# Altium schematic symbol library SCH - BATTERY MANAGEMENT - CN5711 8SOP.SchLib: 1 symbol
Pins are listed as number, name and electrical type; pins without a type are passive.

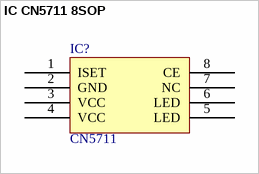
[diagram p0: symbol IC CN5711 8SOP]

## IC CN5711 8SOP
designator IC?, comment CN5711
Current regulation integrated circuit / operating from an input voltage of 2.8V to 6V, the / constant output current can be set up to 1.5A
footprint ALPHAOMEGA SO8 SOP-8L (SOIC, 8-Leads, Body 4.90x3.90mm, Pitch 1.27mm, IPC Medium Density)
pins: 1 ISET, 2 GND, 3 VCC, 4 VCC, 5 LED, 6 LED, 7 NC, 8 CE